# Altium footprint library EEPROM.PcbLib: 2 footprints
Each footprint in its own frame and in the unit in brackets; x right, y up, seen from the top. Pads: shape width x height; smd on the part's side, far side on the other; paste and mask are expansions set on the pad; w line width, h text height; cw(c..) or ccw(c..) is an arc to the next point about the centre after c.
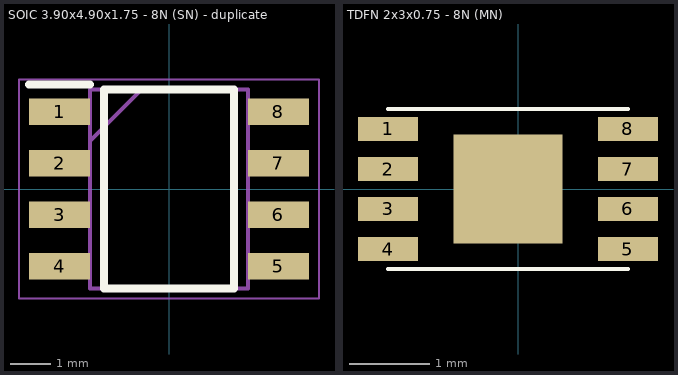
[diagram p0: the footprints below, top view; thin cyan lines are the x and y axes]

## SOIC 3.90x4.90x1.75 - 8N (SN) - duplicate [mm]
pads (8):
  rect 1.5x0.65 smd: 1(-2.7,1.905) 2(-2.7,0.635) 3(-2.7,-0.635) 4(-2.7,-1.905) 5(2.7,-1.905) 6(2.7,-0.635) 7(2.7,0.635) 8(2.7,1.905)
Top Overlay:
  lines w0.2: -3.45,2.58 -1.95,2.58 ; -1.6,-2.45 -1.6,2.45 1.6,2.45 1.6,-2.45 -1.6,-2.45
Mechanical 13:
  lines w0.1: -1.95,1.18 -0.68,2.45 ; -1.95,-2.45 -1.95,2.45 1.95,2.45 1.95,-2.45 -1.95,-2.45
Mechanical 15:
  lines w0.05: -3.7,-2.7 -3.7,2.7 3.7,2.7 3.7,-2.7 -3.7,-2.7
3D body "24LC256-E_SN.stp": height 1.75, standoff 0, extent -3,-2.45 3,2.45

## TDFN 2x3x0.75 - 8N (MN) [mm]
pads (9):
  rect 0.75x0.3 smd: 1(-1.627,0.75) 2(-1.627,0.25) 3(-1.627,-0.25) 4(-1.627,-0.75) 5(1.373,-0.75) 6(1.373,-0.25) 7(1.373,0.25) 8(1.373,0.75)
  rect 1.36x1.36 smd mask+0: ""(-0.127,0)
Top Overlay:
  lines w0.05: -1.627,-1 1.373,-1 ; -1.627,1 1.373,1
3D body "TDFN-8 (MN).STEP": height 0.78, standoff -0.02, extent -1.677,-1 1.423,1